# Altium footprint library SO08.PcbLib: 1 footprints
Each footprint in its own frame and in the unit in brackets; x right, y up, seen from the top. Pads: shape width x height; smd on the part's side, far side on the other; paste and mask are expansions set on the pad; w line width, h text height; cw(c..) or ccw(c..) is an arc to the next point about the centre after c.
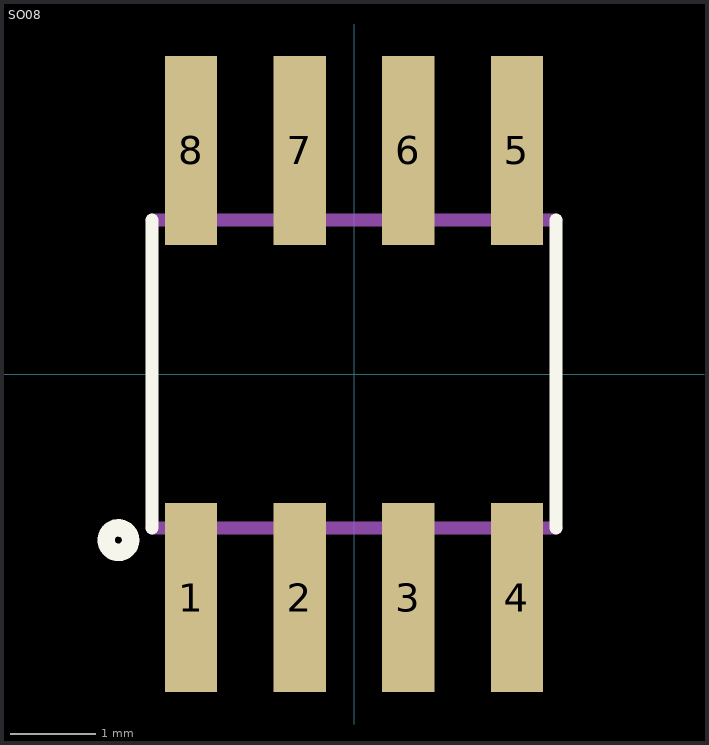
[diagram p0: the footprint, top view; thin cyan lines are the x and y axes]

## SO08 [mil]
pads (8):
  rect 24x87 smd: 1(-75,-103) 2(-25,-103) 3(25,-103) 4(75,-103) 5(75,103) 6(25,103) 7(-25,103) 8(-75,103)
Top Overlay:
  circle w8: c-108.5,-76.5 r5.65
  lines w6: -92.99,-70.98 -92.99,70.98 ; 92.99,-70.98 92.99,70.98
Mechanical 13:
  region: -68,-113 -82,-113 -82,-73 -68,-73
  region: -18,-113 -32,-113 -32,-73 -18,-73
  region: 32,-113 18,-113 18,-73 32,-73
  region: 82,-113 68,-113 68,-73 82,-73
  region: -68,73 -82,73 -82,113 -68,113
  region: -18,73 -32,73 -32,113 -18,113
  region: 32,73 18,73 18,113 32,113
  region: 82,73 68,73 68,113 82,113
  lines w6: -92.99,-70.98 92.99,-70.98 ; -92.99,70.98 92.99,70.98